# Altium footprint library WE-TDC.PcbLib: 2 footprints
Each footprint in its own frame and in the unit in brackets; x right, y up, seen from the top. Pads: shape width x height; smd on the part's side, far side on the other; paste and mask are expansions set on the pad; w line width, h text height; cw(c..) or ccw(c..) is an arc to the next point about the centre after c.
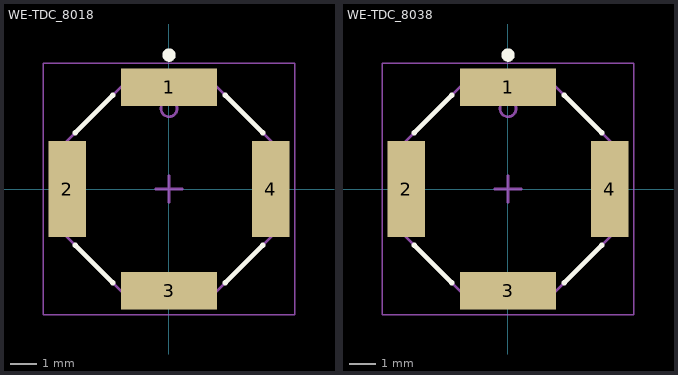
[diagram p0: the footprints below, top view; thin cyan lines are the x and y axes]

## WE-TDC_8018 [mm] "SMT Shielded Coupled Inductor, 4-Leads, body 8x8mm"
height 1.8
pads (4):
  rect 3.6x1.4 smd: 1(0,3.8) 3(0,-3.8)
  rect 1.4x3.6 smd: 2(-3.8,0) 4(3.8,0)
Top Overlay:
  circle w0.25: c0,5 r0.125
  lines w0.2: -3.5,-2.1 -2.1,-3.5 ; -3.5,2.1 -2.1,3.5 ; 2.1,-3.5 3.5,-2.1 ; 2.1,3.5 3.5,2.1
Top Assembly:
  circle w0.1: c0,3 r0.3
  lines w0.1: -4,1.6 -4,-1.6 -1.6,-4 1.6,-4 4,-1.6 4,1.6 1.6,4 ; -4,1.6 -1.6,4 1.6,4
Top Designator:
  text ".Designator" at -3.647,-0.357 h1
Top 3D Body:
  circle w0.1: c0,3 r0.3
  lines w0.1: -4,1.6 -4,-1.6 -1.6,-4 1.6,-4 4,-1.6 4,1.6 1.6,4 ; -4,1.6 -1.6,4 1.6,4
Top Courtyard:
  lines w0.05: -4.7,-4.7 4.7,-4.7 4.7,4.7 -4.7,4.7 -4.7,-4.7
Top Component Center:
  lines w0.1: -0.5,0 0.5,0 ; 0,-0.5 0,0.5
3D body "7448943xxx.stp": height 1.8, standoff 0, extent -4,-4 4,4

## WE-TDC_8038 [mm] "SMT Shielded Coupled Inductor, 4-Leads, body 8x8mm"
height 3.8
pads (4):
  rect 3.6x1.4 smd: 1(0,3.8) 3(0,-3.8)
  rect 1.4x3.6 smd: 2(-3.8,0) 4(3.8,0)
Top Overlay:
  circle w0.25: c0,5 r0.125
  lines w0.2: -3.5,-2.1 -2.1,-3.5 ; -3.5,2.1 -2.1,3.5 ; 2.1,-3.5 3.5,-2.1 ; 2.1,3.5 3.5,2.1
Top Assembly:
  circle w0.1: c0,3 r0.3
  lines w0.1: -4,1.6 -4,-1.6 -1.6,-4 1.6,-4 4,-1.6 4,1.6 1.6,4 ; -4,1.6 -1.6,4 1.6,4
Top Designator:
  text ".Designator" at -3.647,-0.357 h1
Top 3D Body:
  circle w0.1: c0,3 r0.3
  lines w0.1: -4,1.6 -4,-1.6 -1.6,-4 1.6,-4 4,-1.6 4,1.6 1.6,4 ; -4,1.6 -1.6,4 1.6,4
Top Courtyard:
  lines w0.05: -4.7,-4.7 4.7,-4.7 4.7,4.7 -4.7,4.7 -4.7,-4.7
Top Component Center:
  lines w0.1: -0.5,0 0.5,0 ; 0,-0.5 0,0.5
3D body "7448944xxx.stp": height 3.8, standoff 0, extent -4,-4 4,4